# Altium schematic symbol library misc.SchLib: 2 symbols
Pins are listed as number, name and electrical type; pins without a type are passive.

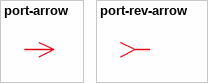
[diagram p0: symbols port-arrow to port-rev-arrow]

## port-arrow
designator UGO*  (no BOM)
graphical object

## port-rev-arrow
designator UGO*  (no BOM)
graphical object